# EAGLE library part 40PCART_NEW (library F030NG)
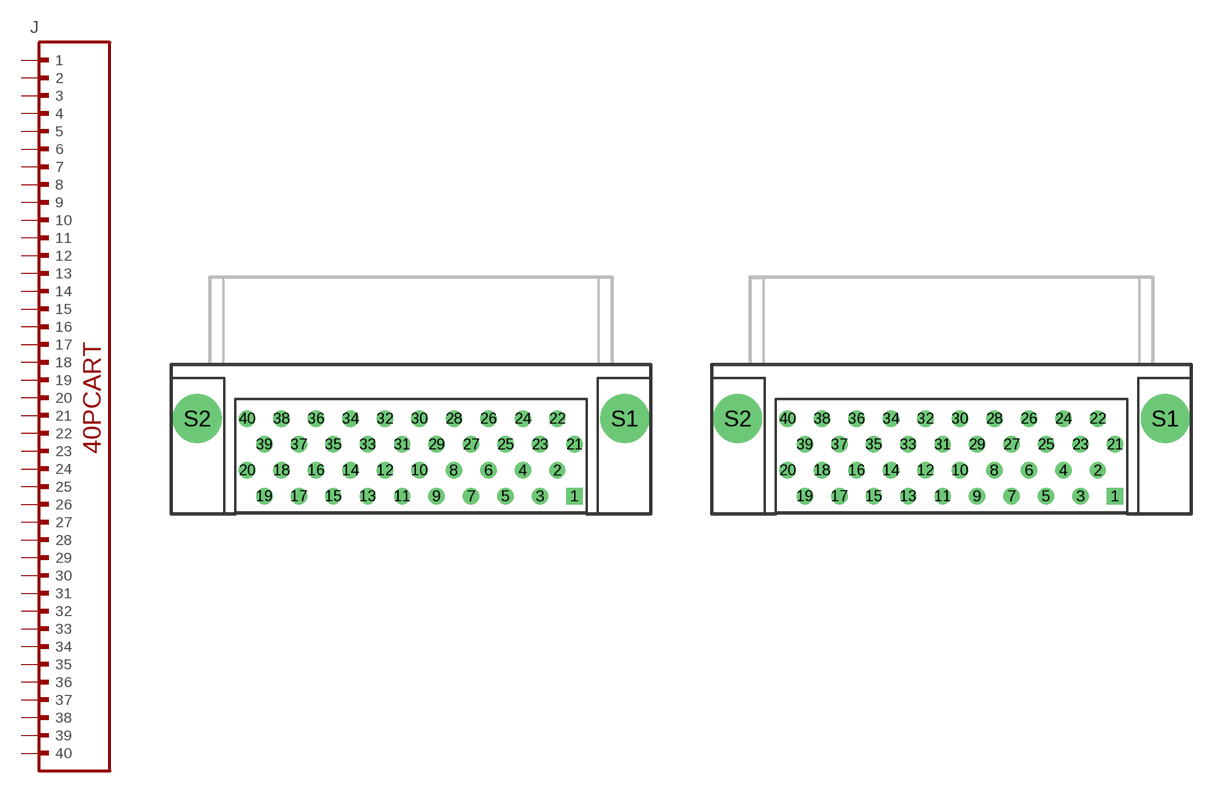
[diagram p1: symbol with the pads of TE_1734037-4; footprints TE_1734037-4, TE_1734037-4_VERT_PINS]

Designator prefix J

## 40PCART_NEWTHT-ORIGINAL  [TE_1734037-4]
1  1
2  2
3  3
4  4
5  5
6  6
7  7
8  8
9  9
10  10
11  11
12  12
13  13
14  14
15  15
16  16
17  17
18  18
19  19
20  20
21  21
22  22
23  23
24  24
25  25
26  26
27  27
28  28
29  29
30  30
31  31
32  32
33  33
34  34
35  35
36  36
37  37
38  38
39  39
40  40

## 40PCART_NEWTHT-VERTICAL_PINS  [TE_1734037-4_VERT_PINS]
1  1
2  3
3  5
4  7
5  9
6  11
7  13
8  15
9  17
10  19
11  21
12  23
13  25
14  27
15  29
16  31
17  33
18  35
19  37
20  39
21  2
22  4
23  6
24  8
25  10
26  12
27  14
28  16
29  18
30  20
31  22
32  24
33  26
34  28
35  30
36  32
37  34
38  36
39  38
40  40

## 40PCART_NEWMEC2-20-01-L-DV-NP  [40PCART_SAMTEC]
Pads as for TE_1734037-4

## Footprint TE_1734037-4 (pad centres in mm)
drill 0.7 square: 1 12.18,-3.365
drill 0.7: 2 10.91,-1.459; 3 9.64,-3.365; 4 8.37,-1.459; 5 7.1,-3.365; 6 5.83,-1.459; 7 4.56,-3.365; 8 3.29,-1.459; 9 2.02,-3.365; 10 0.75,-1.459; 11 -0.52,-3.365; 12 -1.79,-1.459; 13 -3.06,-3.365; 14 -4.33,-1.459; 15 -5.6,-3.365; 16 -6.87,-1.459; 17 -8.14,-3.365; 18 -9.41,-1.459; 19 -10.68,-3.365; 20 -11.95,-1.459; 21 12.18,0.447; 22 10.91,2.353; 23 9.64,0.447; 24 8.37,2.353; 25 7.1,0.447; 26 5.83,2.353; 27 4.56,0.447; 28 3.29,2.353; 29 2.02,0.447; 30 0.75,2.353; 31 -0.52,0.447; 32 -1.79,2.353; 33 -3.06,0.447; 34 -4.33,2.353; 35 -5.6,0.447; 36 -6.87,2.353; 37 -8.14,0.447; 38 -9.41,2.353; 39 -10.68,0.447; 40 -11.95,2.353
drill 2.6: S1 15.88,2.35; S2 -15.62,2.35

## Footprint TE_1734037-4_VERT_PINS (pad centres in mm)
drill 0.7 square: 1 12.18,-3.365
drill 0.7: 2 10.91,-1.459; 3 9.64,-3.365; 4 8.37,-1.459; 5 7.1,-3.365; 6 5.83,-1.459; 7 4.56,-3.365; 8 3.29,-1.459; 9 2.02,-3.365; 10 0.75,-1.459; 11 -0.52,-3.365; 12 -1.79,-1.459; 13 -3.06,-3.365; 14 -4.33,-1.459; 15 -5.6,-3.365; 16 -6.87,-1.459; 17 -8.14,-3.365; 18 -9.41,-1.459; 19 -10.68,-3.365; 20 -11.95,-1.459; 21 12.18,0.447; 22 10.91,2.353; 23 9.64,0.447; 24 8.37,2.353; 25 7.1,0.447; 26 5.83,2.353; 27 4.56,0.447; 28 3.29,2.353; 29 2.02,0.447; 30 0.75,2.353; 31 -0.52,0.447; 32 -1.79,2.353; 33 -3.06,0.447; 34 -4.33,2.353; 35 -5.6,0.447; 36 -6.87,2.353; 37 -8.14,0.447; 38 -9.41,2.353; 39 -10.68,0.447; 40 -11.95,2.353
drill 2.6: S1 15.88,2.35; S2 -15.62,2.35

## Footprint 40PCART_SAMTEC (pad centres in mm)
PIN HEADER
drill 0.8 pad 1.27 square: 1 13.1,19
drill 0.8 pad 1.27: 2 11.1,19; 3 13.1,17; 4 11.1,17; 5 13.1,15; 6 11.1,15; 7 13.1,13; 8 11.1,13; 9 13.1,11; 10 11.1,11; 11 13.1,9; 12 11.1,9; 13 13.1,7; 14 11.1,7; 15 13.1,5; 16 11.1,5; 17 13.1,3; 18 11.1,3; 19 13.1,1; 20 11.1,1; 21 13.1,-1; 22 11.1,-1; 23 13.1,-3; 24 11.1,-3; 25 13.1,-5; 26 11.1,-5; 27 13.1,-7; 28 11.1,-7; 29 13.1,-9; 30 11.1,-9; 31 13.1,-11; 32 11.1,-11; 33 13.1,-13; 34 11.1,-13; 35 13.1,-15; 36 11.1,-15; 37 13.1,-17; 38 11.1,-17; 39 13.1,-19; 40 11.1,-19
drill 3.2 pad 5.842: P$1 17.6,25.8; P$2 17.6,-25.8